# EAGLE library part F1C100S_DEV (library f1c100s)
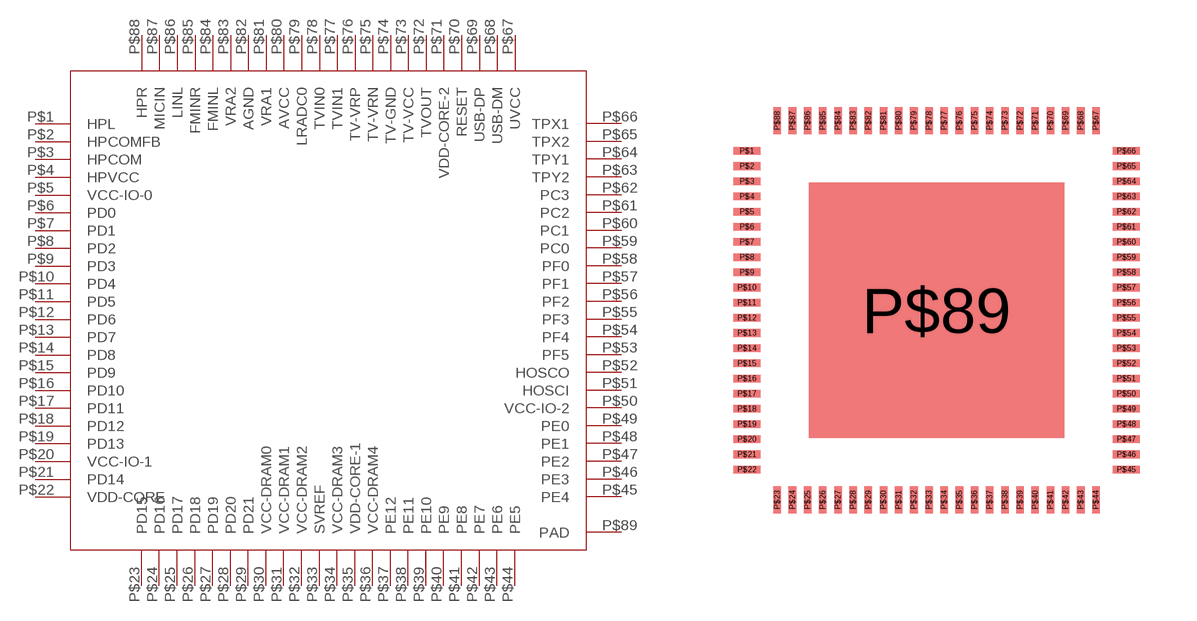
[diagram p0: symbol with the pads of MQFN88; footprint MQFN88]

Designator prefix -

## F1C100S_DEV  [MQFN88]
P$1  HPL
P$2  HPCOMFB
P$3  HPCOM
P$4  HPVCC
P$5  VCC-IO-0
P$6  PD0
P$7  PD1
P$8  PD2
P$9  PD3
P$10  PD4
P$11  PD5
P$12  PD6
P$13  PD7
P$14  PD8
P$15  PD9
P$16  PD10
P$17  PD11
P$18  PD12
P$19  PD13
P$20  VCC-IO-1
P$21  PD14
P$22  VDD-CORE
P$23  PD15
P$24  PD16
P$25  PD17
P$26  PD18
P$27  PD19
P$28  PD20
P$29  PD21
P$30  VCC-DRAM0
P$31  VCC-DRAM1
P$32  VCC-DRAM2
P$33  SVREF
P$34  VCC-DRAM3
P$35  VDD-CORE-1
P$36  VCC-DRAM4
P$37  PE12
P$38  PE11
P$39  PE10
P$40  PE9
P$41  PE8
P$42  PE7
P$43  PE6
P$44  PE5
P$45  PE4
P$46  PE3
P$47  PE2
P$48  PE1
P$49  PE0
P$50  VCC-IO-2
P$51  HOSCI
P$52  HOSCO
P$53  PF5
P$54  PF4
P$55  PF3
P$56  PF2
P$57  PF1
P$58  PF0
P$59  PC0
P$60  PC1
P$61  PC2
P$62  PC3
P$63  TPY2
P$64  TPY1
P$65  TPX2
P$66  TPX1
P$67  UVCC
P$68  USB-DM
P$69  USB-DP
P$70  RESET
P$71  VDD-CORE-2
P$72  TVOUT
P$73  TV-VCC
P$74  TV-GND
P$75  TV-VRN
P$76  TV-VRP
P$77  TVIN1
P$78  TVIN0
P$79  LRADC0
P$80  AVCC
P$81  VRA1
P$82  AGND
P$83  VRA2
P$84  FMINL
P$85  FMINR
P$86  LINL
P$87  MICIN
P$88  HPR
P$89  PAD

## Footprint MQFN88 (pad centres in mm)
smd 0.7 x 0.2: P$1 -5,4.2; P$2 -5,3.8; P$3 -5,3.4; P$4 -5,3; P$5 -5,2.6; P$6 -5,2.2; P$7 -5,1.8; P$8 -5,1.4; P$9 -5,1; P$10 -5,0.6; P$11 -5,0.2; P$12 -5,-0.2; P$13 -5,-0.6; P$14 -5,-1; P$15 -5,-1.4; P$16 -5,-1.8; P$17 -5,-2.2; P$18 -5,-2.6; P$19 -5,-3; P$20 -5,-3.4; P$21 -5,-3.8; P$22 -5,-4.2; P$45 5,-4.2; P$46 5,-3.8; P$47 5,-3.4; P$48 5,-3; P$49 5,-2.6; P$50 5,-2.2; P$51 5,-1.8; P$52 5,-1.4; P$53 5,-1; P$54 5,-0.6; P$55 5,-0.2; P$56 5,0.2; P$57 5,0.6; P$58 5,1; P$59 5,1.4; P$60 5,1.8; P$61 5,2.2; P$62 5,2.6; P$63 5,3; P$64 5,3.4; P$65 5,3.8; P$66 5,4.2
smd 0.2 x 0.7: P$23 -4.2,-5; P$24 -3.8,-5; P$25 -3.4,-5; P$26 -3,-5; P$27 -2.6,-5; P$28 -2.2,-5; P$29 -1.8,-5; P$30 -1.4,-5; P$31 -1,-5; P$32 -0.6,-5; P$33 -0.2,-5; P$34 0.2,-5; P$35 0.6,-5; P$36 1,-5; P$37 1.4,-5; P$38 1.8,-5; P$39 2.2,-5; P$40 2.6,-5; P$41 3,-5; P$42 3.4,-5; P$43 3.8,-5; P$44 4.2,-5; P$67 4.2,5; P$68 3.8,5; P$69 3.4,5; P$70 3,5; P$71 2.6,5; P$72 2.2,5; P$73 1.8,5; P$74 1.4,5; P$75 1,5; P$76 0.6,5; P$77 0.2,5; P$78 -0.2,5; P$79 -0.6,5; P$80 -1,5; P$81 -1.4,5; P$82 -1.8,5; P$83 -2.2,5; P$84 -2.6,5; P$85 -3,5; P$86 -3.4,5; P$87 -3.8,5; P$88 -4.2,5
smd 6.74 x 6.74: P$89 0,0